# Altium integrated library ST Logic Parity Gen Check Detect.IntLib: 7 symbols
Pins are listed as number, name and electrical type; pins without a type are passive.

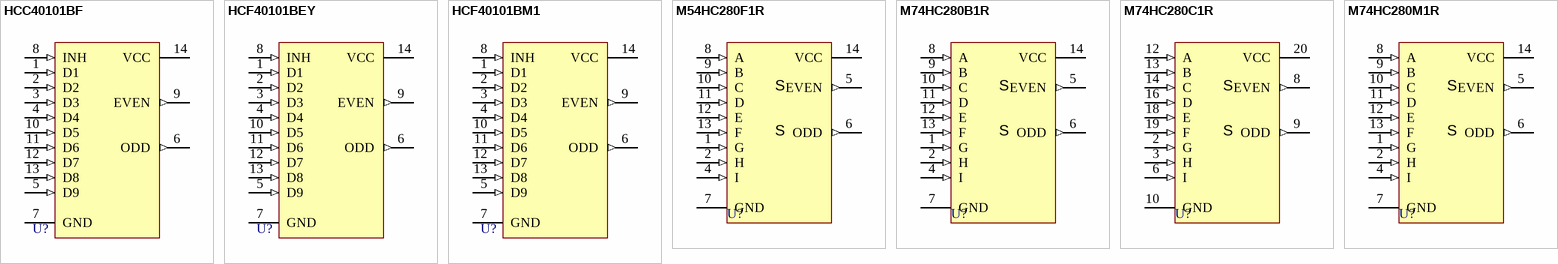
[diagram p0: symbols HCC40101BF to M74HC280M1R]

## HCC40101BF
designator U?
9-Bit Parity Generator/Checker; Published: 8-Jun-2000; LatestRevisionDate: 6-Jun-2005; LatestRevisionNote: Stylized 3D Model Added.; DatasheetDocument: Jun-1989; PackageReference: CDIP14; Publisher: Altium Limited; ComponentLink1Description: Manufacturer Link; ComponentLink1URL: http://www.st.com/
footprint CDIP14 (DIP; 14 Leads; Row Spacing 7.62 mm; Pitch 2.54 mm)
3D model CDIP14 (DIP; 14 Leads; Row Spacing 7.62 mm; Pitch 2.54 mm)
pins: 1 D1 (in), 2 D2 (in), 3 D3 (in), 4 D4 (in), 5 D9 (in), 6 ODD (out), 7 GND (power), 8 INH (in), 9 EVEN (out), 10 D5 (in), 11 D6 (in), 12 D7 (in), 13 D8 (in), 14 VCC (power)

## HCF40101BEY
designator U?
9-Bit Parity Generator/Checker; Published: 8-Jun-2000; LatestRevisionDate: 6-Jun-2005; LatestRevisionNote: Stylized 3D Model Added.; DatasheetDocument: Jun-1989; PackageDocument: Jan-1997; PackageReference: DIP14; Publisher: Altium Limited; ComponentLink1Description: Manufacturer Link; ComponentLink1URL: http://www.st.com/
footprint DIP14 (DIP; 14 Leads; Row Spacing 7.62 mm; Pitch 2.54 mm)
3D model CDIP14 (DIP; 14 Leads; Row Spacing 7.62 mm; Pitch 2.54 mm)
pins: 1 D1 (in), 2 D2 (in), 3 D3 (in), 4 D4 (in), 5 D9 (in), 6 ODD (out), 7 GND (power), 8 INH (in), 9 EVEN (out), 10 D5 (in), 11 D6 (in), 12 D7 (in), 13 D8 (in), 14 VCC (power)

## HCF40101BM1
designator U?
9-Bit Parity Generator/Checker; Published: 8-Jun-2000; LatestRevisionDate: 6-Jun-2005; LatestRevisionNote: Stylized 3D Model Added.; DatasheetDocument: Jun-1989; PackageDocument: Sep-1998; PackageReference: SO14; Publisher: Altium Limited; ComponentLink1Description: Manufacturer Link; ComponentLink1URL: http://www.st.com/
footprint SO14 (Small Outline; 14 Leads; Body Width 3.9 mm; Pitch 1.27 mm)
3D model SO14 (Small Outline; 14 Leads; Body Width 3.9 mm; Pitch 1.27 mm)
pins: 1 D1 (in), 2 D2 (in), 3 D3 (in), 4 D4 (in), 5 D9 (in), 6 ODD (out), 7 GND (power), 8 INH (in), 9 EVEN (out), 10 D5 (in), 11 D6 (in), 12 D7 (in), 13 D8 (in), 14 VCC (power)

## M54HC280F1R
designator U?
9-Bit Parity Generator; Note: Pin 3 is not connected and not drawn.; Published: 8-Jun-2000; LatestRevisionDate: 6-Jun-2005; LatestRevisionNote: Stylized 3D Model Added.; DatasheetDocument: Oct-1992; PackageReference: CDIP14; Publisher: Altium Limited; ComponentLink1Description: Manufacturer Link; ComponentLink1URL: http://www.st.com/
footprint CDIP14 (DIP; 14 Leads; Row Spacing 7.62 mm; Pitch 2.54 mm)
3D model CDIP14 (DIP; 14 Leads; Row Spacing 7.62 mm; Pitch 2.54 mm)
signal-integrity model M54HC280F1R
pins: 1 G (in), 2 H (in), 4 I (in), 5 EVEN (out), 6 ODD (out), 7 GND (power), 8 A (in), 9 B (in), 10 C (in), 11 D (in), 12 E (in), 13 F (in), 14 VCC (power)
text: S

## M74HC280B1R
designator U?
9-Bit Parity Generator; Note: Pin 3 is not connected and not drawn.; Published: 8-Jun-2000; LatestRevisionDate: 6-Jun-2005; LatestRevisionNote: Stylized 3D Model Added.; DatasheetDocument: Oct-1992; PackageDocument: Jan-1997; PackageReference: DIP14; Publisher: Altium Limited; ComponentLink1Description: Manufacturer Link; ComponentLink1URL: http://www.st.com/; ComponentLink2Description: Datasheet; ComponentLink2URL: http://www.st.com/stonline/products/literature/ds/1938/m74hc280.pdf
footprint DIP14 (DIP; 14 Leads; Row Spacing 7.62 mm; Pitch 2.54 mm)
3D model CDIP14 (DIP; 14 Leads; Row Spacing 7.62 mm; Pitch 2.54 mm)
signal-integrity model M74HC280B1R
pins: 1 G (in), 2 H (in), 4 I (in), 5 EVEN (out), 6 ODD (out), 7 GND (power), 8 A (in), 9 B (in), 10 C (in), 11 D (in), 12 E (in), 13 F (in), 14 VCC (power)
text: S

## M74HC280C1R
designator U?
9-Bit Parity Generator; Note: Pins 1, 4, 5, 7, 11, 15 and 17 are not connected and not drawn.; Published: 8-Jun-2000; LatestRevisionDate: 6-Jun-2005; LatestRevisionNote: Stylized 3D Model Added.; DatasheetDocument: Oct-1992; PackageDocument: Mar-1992; PackageReference: PLCC20; Publisher: Altium Limited; ComponentLink1Description: Manufacturer Link; ComponentLink1URL: http://www.st.com/
footprint PLCC20 (Leaded Chip Carrier; 20 Leads; Body 9 x 9 mm)
3D model M74HC280-PLCC20 (Leaded Chip Carrier; 20 Leads; Body 9 x 9 mm)
signal-integrity model M74HC280C1R
pins: 2 G (in), 3 H (in), 6 I (in), 8 EVEN (out), 9 ODD (out), 10 GND (power), 12 A (in), 13 B (in), 14 C (in), 16 D (in), 18 E (in), 19 F (in), 20 VCC (power)
text: S

## M74HC280M1R
designator U?
9-Bit Parity Generator; Note: Pin 3 is not connected and not drawn.; Published: 8-Jun-2000; LatestRevisionDate: 6-Jun-2005; LatestRevisionNote: Stylized 3D Model Added.; DatasheetDocument: Oct-1992; PackageDocument: Sep-1998; PackageReference: SO14; Publisher: Altium Limited; ComponentLink1Description: Manufacturer Link; ComponentLink1URL: http://www.st.com/; ComponentLink2Description: Datasheet; ComponentLink2URL: http://www.st.com/stonline/products/literature/ds/1938/m74hc280.pdf
footprint SO14 (Small Outline; 14 Leads; Body Width 3.9 mm; Pitch 1.27 mm)
3D model SO14 (Small Outline; 14 Leads; Body Width 3.9 mm; Pitch 1.27 mm)
signal-integrity model M74HC280M1R
pins: 1 G (in), 2 H (in), 4 I (in), 5 EVEN (out), 6 ODD (out), 7 GND (power), 8 A (in), 9 B (in), 10 C (in), 11 D (in), 12 E (in), 13 F (in), 14 VCC (power)
text: S